# EAGLE library part 632723300011 (library 632723300011)
USB Connectors WR-COM USB3.1 Type C SuperSpeed+ Rcpt Source: Datasheet <http://katalog.we-online.de/em/datasheet/632723x00011.pdf>
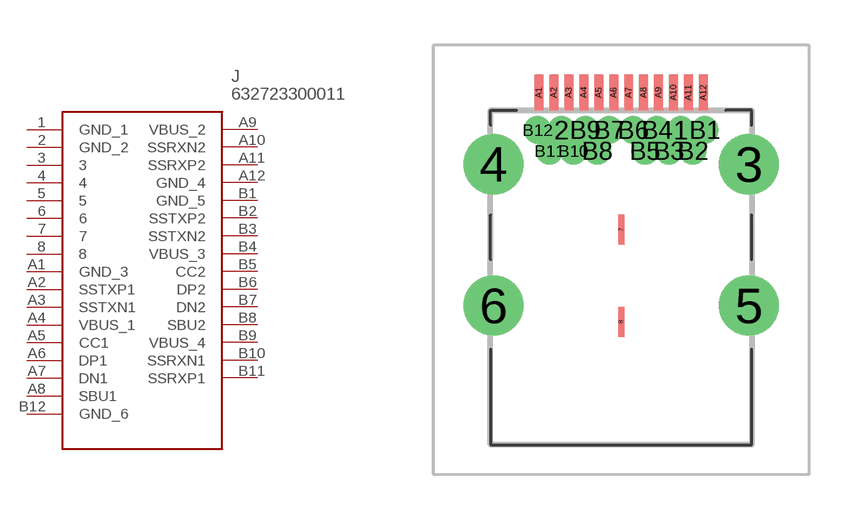
[diagram p0: symbol with the pads of 632723300011; footprint 632723300011]

Designator prefix J

## 632723300011 (Description: USB Connectors WR-COM USB3.1 Type C SuperSpeed+ Rcpt; Height: 2mm; Manufacturer_Name: Wurth Elektronik; Manufacturer_Part_Number: 632723300011; Mouser_Part_Number: 710-632723300011; Mouser_Price-Stock: https://www.mouser.co.uk/ProductDetail/Wurth-Elektronik/632723300011?qs=NK6InXoXhq4%252B5eM1PePLPg%3D%3D)  [632723300011]
1  GND_1
2  GND_2
3  3
4  4
5  5
6  6
7  7
8  8
A1  GND_3
A2  SSTXP1
A3  SSTXN1
A4  VBUS_1
A5  CC1
A6  DP1
A7  DN1
A8  SBU1
A9  VBUS_2
A10  SSRXN2
A11  SSRXP2
A12  GND_4
B1  GND_5
B2  SSTXP2
B3  SSTXN2
B4  VBUS_3
B5  CC2
B6  DP2
B7  DN2
B8  SBU2
B9  VBUS_4
B10  SSRXN1
B11  SSRXP1
B12  GND_6

## Footprint 632723300011 (pad centres in mm)
632723300011
drill 0.4 pad 0.65: 1 2,4.645; 2 -2,4.645; B1 2.8,4.645; B2 2.4,3.945; B3 1.6,3.945; B4 1.2,4.645; B5 0.8,3.945; B6 0.4,4.645; B7 -0.4,4.645; B8 -0.8,3.945; B9 -1.2,4.645; B10 -1.6,3.945; B11 -2.4,3.945; B12 -2.8,4.645
drill 1.342 pad 2.012: 3 4.27,3.495; 4 -4.27,3.495; 5 4.27,-1.235; 6 -4.27,-1.235
smd 0.2 x 1: 7 0,1.315; 8 0,-1.785
smd 0.3 x 1.2: A1 -2.75,5.895; A2 -2.25,5.895; A3 -1.75,5.895; A4 -1.25,5.895; A5 -0.75,5.895; A6 -0.25,5.895; A7 0.25,5.895; A8 0.75,5.895; A9 1.25,5.895; A10 1.75,5.895; A11 2.25,5.895; A12 2.75,5.895